# EAGLE library part M25P40 (library PP_DigitalIC)
Manufacturer Part #: M25P40 Manufacturer: Micron Technology Inc. Description: IC FLASH 4MBIT 75MHZ
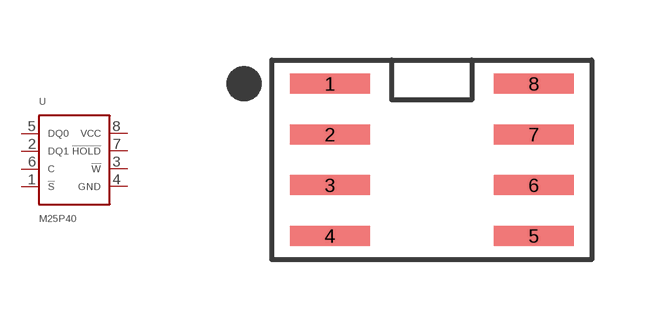
[diagram p26: symbol with the pads of M25P40_SOIC-8; footprint M25P40_SOIC-8]

Designator prefix U

## M25P40-VMN6TPBCT  [M25P40_SOIC-8]
1  !S
2  DQ1
3  !W
4  GND
5  DQ0
6  C
7  !HOLD
8  VCC

## Footprint M25P40_SOIC-8 (pad centres in mm)
smd 2 x 0.5: 1 -2.55,1.905; 2 -2.55,0.635; 3 -2.55,-0.635; 4 -2.55,-1.905; 5 2.55,-1.905; 6 2.55,-0.635; 7 2.55,0.635; 8 2.55,1.905